# Altium footprint library INMP401.PcbLib: 1 footprints
Each footprint in its own frame and in the unit in brackets; x right, y up, seen from the top. Pads: shape width x height; smd on the part's side, far side on the other; paste and mask are expansions set on the pad; w line width, h text height; cw(c..) or ccw(c..) is an arc to the next point about the centre after c.
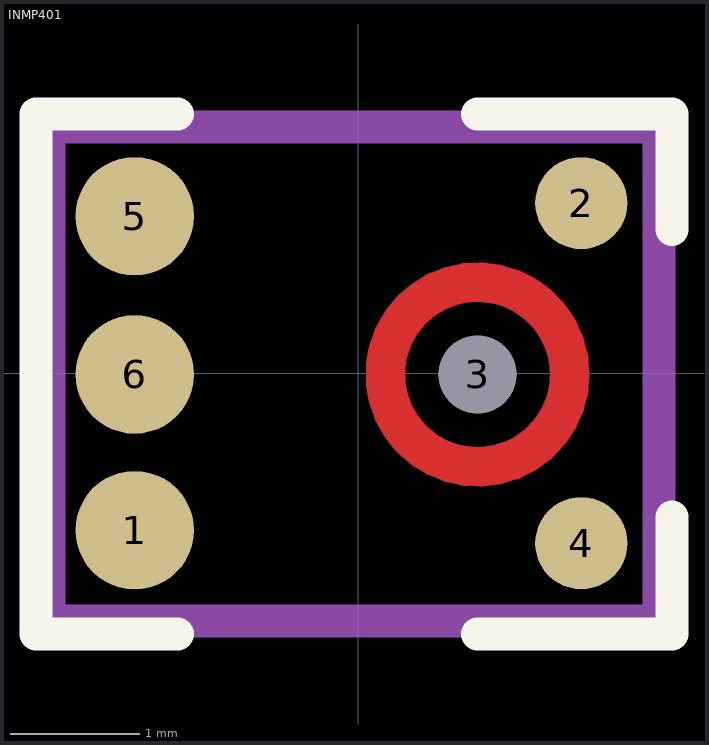
[diagram p0: the footprint, top view; thin cyan lines are the x and y axes]

## INMP401 [mil]
pads (6):
  rrect100% 36x36 smd: 1(-67.75,-47.65) 5(-67.75,47.59) 6(-67.75,-0.41)
  rrect100% 28x28 smd: 2(67.75,51.59) 4(67.75,-51.59)
  round 23.62 hole 23.62 unplated paste+0 mask+0: 3(36.25,-0.41)
Top Layer:
  circle w12: c36.25,-0.41 r28
Top Overlay:
  lines w10: -54.75,-79.15 -97.75,-79.15 -97.75,78.59 -54.75,78.59 ; 36.25,-79.15 95.31,-79.15 95.31,-43.72 ; 36.25,78.59 95.31,78.59 95.31,43.59
Top Paste:
  lines w12: 9.25,-7.69 ccw(c36.52,0.16) 28.25,-26.98 ; 9.25,7.59 cw(c36.25,-0.4) 28.25,26.59 ; 43.54,-27.18 ccw(c35.24,0.33) 62.83,-7.69 ; 43.54,26.59 cw(c35.78,-0.85) 63.02,7.59
Top Solder:
  circle w16.06: c36.25,-0.41 r28
Mechanical 4:
Mechanical 16:
  lines w10: -93.75,-75.21 91.37,-75.21 91.37,74.59 -93.75,74.59 -93.75,-75.21